# Altium integrated library TI Power Management Step-Down Regulator.IntLib: 565 symbols (part 33 of 33)
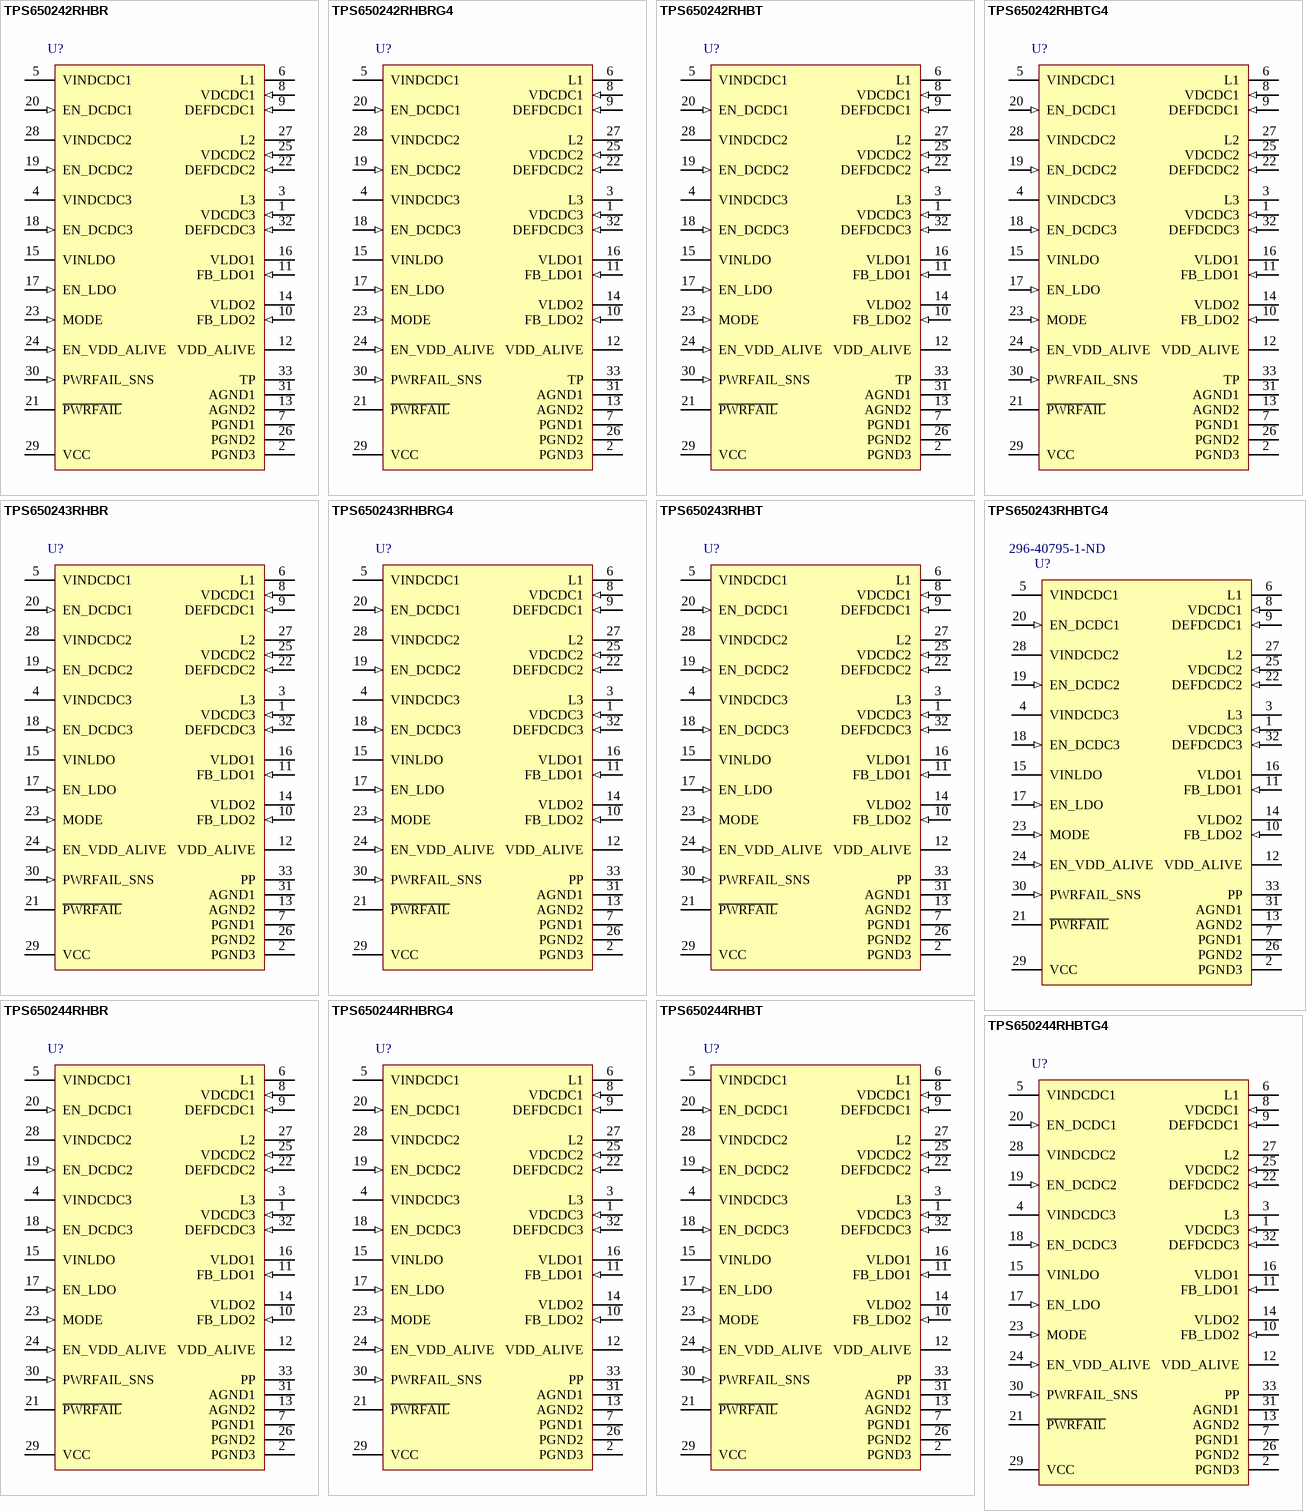
[diagram p51: symbols TPS650242RHBR to TPS650244RHBTG4]

## TPS650244RHBT
designator U?
Multi-Channel Power Management IC with 2.5 to 6 V Input and 2.5 to 6 V Output, -40 to 85 degC, 32-Pin QFN (RHB), Green (RoHS & no Sb/Br); Manufacturer: Texas Instruments; PartNumber: TPS650244RHBT; Dynamic Voltage Scaling: TRUE; Rating: Catalog; Regulated Outputs(#): 6; SubFamily: Step-Down Regulator; Vin(Min)(V): 2.5; DatasheetVersion: SLVS774B; PackageVersion: revD, Jun-2011; PackageReference: RHB32-3450X3450TP; PackageDescription: 32-Pin Plastic Quad Flat No-Lead, 5 x 5 mm Body, 0.5 mm Pitch, 3.45 x 3.45 mm Exposed Pad; Supplier 1: Digi-Key; Supplier Part Number 1: 296-23067-2-ND; Eco-Plan: Green (RoHS & no Sb/Br); Topology: Multi-Channel; Vin(Max)(V): 6; Vout(Max)(V): 6; Vout(Min)(V): 2.5; Mounting Technology: Surface Mount; Code_JEDEC: MO-220; ComponentLink1Description: Datasheet; ComponentLink1URL: http://www.ti.com/general/docs/lit/getliterature.tsp?genericPartNumber=TPS650244&fileType=pdf; ComponentLink2Description: Package Specification; ComponentLink2URL: http://www.ti.com/litv/pdf/mpqf130c; ComponentLink3Description: URL Link1; ComponentLink3URL: Samples URL:http://www.ti.com/product/tps650244#samples
footprint RHB32-3450X3450TP (QFN, 32-Leads, Body 5x5mm, Pitch 0.5mm, Thermal Pad 3.45x3.45mm, TI Recommended)
pins: 1 VDCDC3 (in) "VDCDC3 feedback voltage sense input, connect directly to VDCDC3", 2 PGND3 (power) "Power ground for VDCDC3 converter", 3 L3 (power) "Switch pin of VDCDC3 converter. The VDCDC3 inductor is connected here.", 4 VINDCDC3 (power) "Input voltage for VDCDC3 step-down converter. This must be connected to the same voltage supply as VINDCDC1, VINDCDC2 and VCC.", 5 VINDCDC1 (power) "Input voltage for VDCDC1 step-down converter. This must be connected to the same voltage supply as VINDCDC2, VINDCDC3 and VCC", 6 L1 (power) "Switch pin of VDCDC1 converter. The VDCDC1 inductor is connected here.", 7 PGND1 (power) "Power ground for VDCDC1 converter", 8 VDCDC1 (in) "VDCDC1 feedback voltage sense input, connect directly to VDCDC1", 9 DEFDCDC1 (in) "Input signal indicating default VDCDC1 voltage, 0 = 2.80V, 1 = 3.3V This pin can also be connected to a resistor divider between VDCDC1 and GND. In this case the output voltage of the DCDC1 converter can be set in a range (See Datasheet)", 10 FB_LDO2 (in) "Feedback pin for LDO2", 11 FB_LDO1 (in) "Feedback pin for LDO1", 12 VDD_ALIVE (power) "Output voltage for Vdd_alive", 13 AGND2 (power) "Analog ground connection. All analog ground pins are connected internally on the chip.", 14 VLDO2 (power) "Output voltage of LDO2", 15 VINLDO (power) "Input voltage for LDO1 and LDO2", 16 VLDO1 (power) "Output voltage of LDO1", 17 EN_LDO (in) "Enable input for LDO1 and LDO2. Logic high enables the LDOs, logic low disables the LDOs", 18 EN_DCDC3 (in) "VDCDC3 enable pin. A logic high enables the regulator, a logic low disables the regulator", 19 EN_DCDC2 (in) "VDCDC2 enable pin. A logic high enables the regulator, a logic low disables the regulator", 20 EN_DCDC1 (in) "VDCDC1 enable pin. A logic high enables the regulator, a logic low disables the regulator", 21 ~{PWRFAIL} (oc) "Open drain output. Active low when PWRFAIL comparator indicates low VBAT condition", 22 DEFDCDC2 (in) "Input signal indicating default VDCDC2 voltage, 0=1.8V, 1=2.5V This pin can also be connected to a resistor divider between VDCDC2 and GND. In this case the output voltage of the DCDC2 converter can be set in a range from 0.(See Datasheet)", 23 MODE (in) "Select between Power Safe Mode and forced PWM Mode for DCDC1, DCDC2 and DCDC3. In Power Safe Mode PFM is used at light loads, PWM for higher loads. If PIN is set to high level, forced PWM Mode is selected. If Pin has low (See Datasheet)", 24 EN_VDD_ALIVE (in) "Enable input for Vdd_alive LDO. Logic high enables the LDO, logic low disables the LDO", 25 VDCDC2 (in) "VDCDC2 feedback voltage sense input, connect directly to VDCDC2", 26 PGND2 (power) "Power ground for VDCDC2 converter", 27 L2 (power) "Switch pin of VDCDC2 converter. The VDCDC2 inductor is connected here.", 28 VINDCDC2 (power) "Input voltage for VDCDC2 step-down converter. This must be connected to the same voltage supply as VINDCDC1, VINDCDC3 and VCC", 29 VCC (power) "Power supply for digital and analog circuitry of DCDC1, DCDC2 and DCDC3 DC-DC converters. This must be connected to the same voltage supply as VINDCDC3, VINDCDC1 and VINDCDC2.", 30 PWRFAIL_SNS (in) "Input for the comparator driving the /PWRFAIL output", 31 AGND1 (power) "Analog ground connection. All analog ground pins are connected internally on the chip.", 32 DEFDCDC3 (in) "Input signal indicating VDCDC3 voltage.TPS650244: 0 = 1.55V, 1 = 1.6V", 33 PP (power) "Connect the power pad to analog ground"

## TPS650244RHBTG4
designator U?
Multi-Channel Power Management IC with 2.5 to 6 V Input and 2.5 to 6 V Output, -40 to 85 degC, 32-Pin QFN (RHB), Green (RoHS & no Sb/Br); Manufacturer: Texas Instruments; PartNumber: TPS650244RHBTG4; Dynamic Voltage Scaling: TRUE; Rating: Catalog; Regulated Outputs(#): 6; SubFamily: Step-Down Regulator; Vin(Min)(V): 2.5; DatasheetVersion: SLVS774B; PackageVersion: revD, Jun-2011; PackageReference: RHB32-3450X3450TP; PackageDescription: 32-Pin Plastic Quad Flat No-Lead, 5 x 5 mm Body, 0.5 mm Pitch, 3.45 x 3.45 mm Exposed Pad; Supplier 1: Digi-Key; Supplier Part Number 1: TPS650244RHBTG4-ND; Eco-Plan: Green (RoHS & no Sb/Br); Topology: Multi-Channel; Vin(Max)(V): 6; Vout(Max)(V): 6; Vout(Min)(V): 2.5; Mounting Technology: Surface Mount; Code_JEDEC: MO-220; ComponentLink1Description: Datasheet; ComponentLink1URL: http://www.ti.com/general/docs/lit/getliterature.tsp?genericPartNumber=TPS650244&fileType=pdf; ComponentLink2Description: Package Specification; ComponentLink2URL: http://www.ti.com/litv/pdf/mpqf130c; ComponentLink3Description: URL Link1; ComponentLink3URL: Samples URL:http://www.ti.com/product/tps54611#samples
footprint RHB32-3450X3450TP (QFN, 32-Leads, Body 5x5mm, Pitch 0.5mm, Thermal Pad 3.45x3.45mm, TI Recommended)
pins: 1 VDCDC3 (in) "VDCDC3 feedback voltage sense input, connect directly to VDCDC3", 2 PGND3 (power) "Power ground for VDCDC3 converter", 3 L3 (power) "Switch pin of VDCDC3 converter. The VDCDC3 inductor is connected here.", 4 VINDCDC3 (power) "Input voltage for VDCDC3 step-down converter. This must be connected to the same voltage supply as VINDCDC1, VINDCDC2 and VCC.", 5 VINDCDC1 (power) "Input voltage for VDCDC1 step-down converter. This must be connected to the same voltage supply as VINDCDC2, VINDCDC3 and VCC", 6 L1 (power) "Switch pin of VDCDC1 converter. The VDCDC1 inductor is connected here.", 7 PGND1 (power) "Power ground for VDCDC1 converter", 8 VDCDC1 (in) "VDCDC1 feedback voltage sense input, connect directly to VDCDC1", 9 DEFDCDC1 (in) "Input signal indicating default VDCDC1 voltage, 0 = 2.80V, 1 = 3.3V This pin can also be connected to a resistor divider between VDCDC1 and GND. In this case the output voltage of the DCDC1 converter can be set in a range (See Datasheet)", 10 FB_LDO2 (in) "Feedback pin for LDO2", 11 FB_LDO1 (in) "Feedback pin for LDO1", 12 VDD_ALIVE (power) "Output voltage for Vdd_alive", 13 AGND2 (power) "Analog ground connection. All analog ground pins are connected internally on the chip.", 14 VLDO2 (power) "Output voltage of LDO2", 15 VINLDO (power) "Input voltage for LDO1 and LDO2", 16 VLDO1 (power) "Output voltage of LDO1", 17 EN_LDO (in) "Enable input for LDO1 and LDO2. Logic high enables the LDOs, logic low disables the LDOs", 18 EN_DCDC3 (in) "VDCDC3 enable pin. A logic high enables the regulator, a logic low disables the regulator", 19 EN_DCDC2 (in) "VDCDC2 enable pin. A logic high enables the regulator, a logic low disables the regulator", 20 EN_DCDC1 (in) "VDCDC1 enable pin. A logic high enables the regulator, a logic low disables the regulator", 21 ~{PWRFAIL} (oc) "Open drain output. Active low when PWRFAIL comparator indicates low VBAT condition", 22 DEFDCDC2 (in) "Input signal indicating default VDCDC2 voltage, 0=1.8V, 1=2.5V This pin can also be connected to a resistor divider between VDCDC2 and GND. In this case the output voltage of the DCDC2 converter can be set in a range from 0.(See Datasheet)", 23 MODE (in) "Select between Power Safe Mode and forced PWM Mode for DCDC1, DCDC2 and DCDC3. In Power Safe Mode PFM is used at light loads, PWM for higher loads. If PIN is set to high level, forced PWM Mode is selected. If Pin has low (See Datasheet)", 24 EN_VDD_ALIVE (in) "Enable input for Vdd_alive LDO. Logic high enables the LDO, logic low disables the LDO", 25 VDCDC2 (in) "VDCDC2 feedback voltage sense input, connect directly to VDCDC2", 26 PGND2 (power) "Power ground for VDCDC2 converter", 27 L2 (power) "Switch pin of VDCDC2 converter. The VDCDC2 inductor is connected here.", 28 VINDCDC2 (power) "Input voltage for VDCDC2 step-down converter. This must be connected to the same voltage supply as VINDCDC1, VINDCDC3 and VCC", 29 VCC (power) "Power supply for digital and analog circuitry of DCDC1, DCDC2 and DCDC3 DC-DC converters. This must be connected to the same voltage supply as VINDCDC3, VINDCDC1 and VINDCDC2.", 30 PWRFAIL_SNS (in) "Input for the comparator driving the /PWRFAIL output", 31 AGND1 (power) "Analog ground connection. All analog ground pins are connected internally on the chip.", 32 DEFDCDC3 (in) "Input signal indicating VDCDC3 voltage.TPS650244: 0 = 1.55V, 1 = 1.6V", 33 PP (power) "Connect the power pad to analog ground"

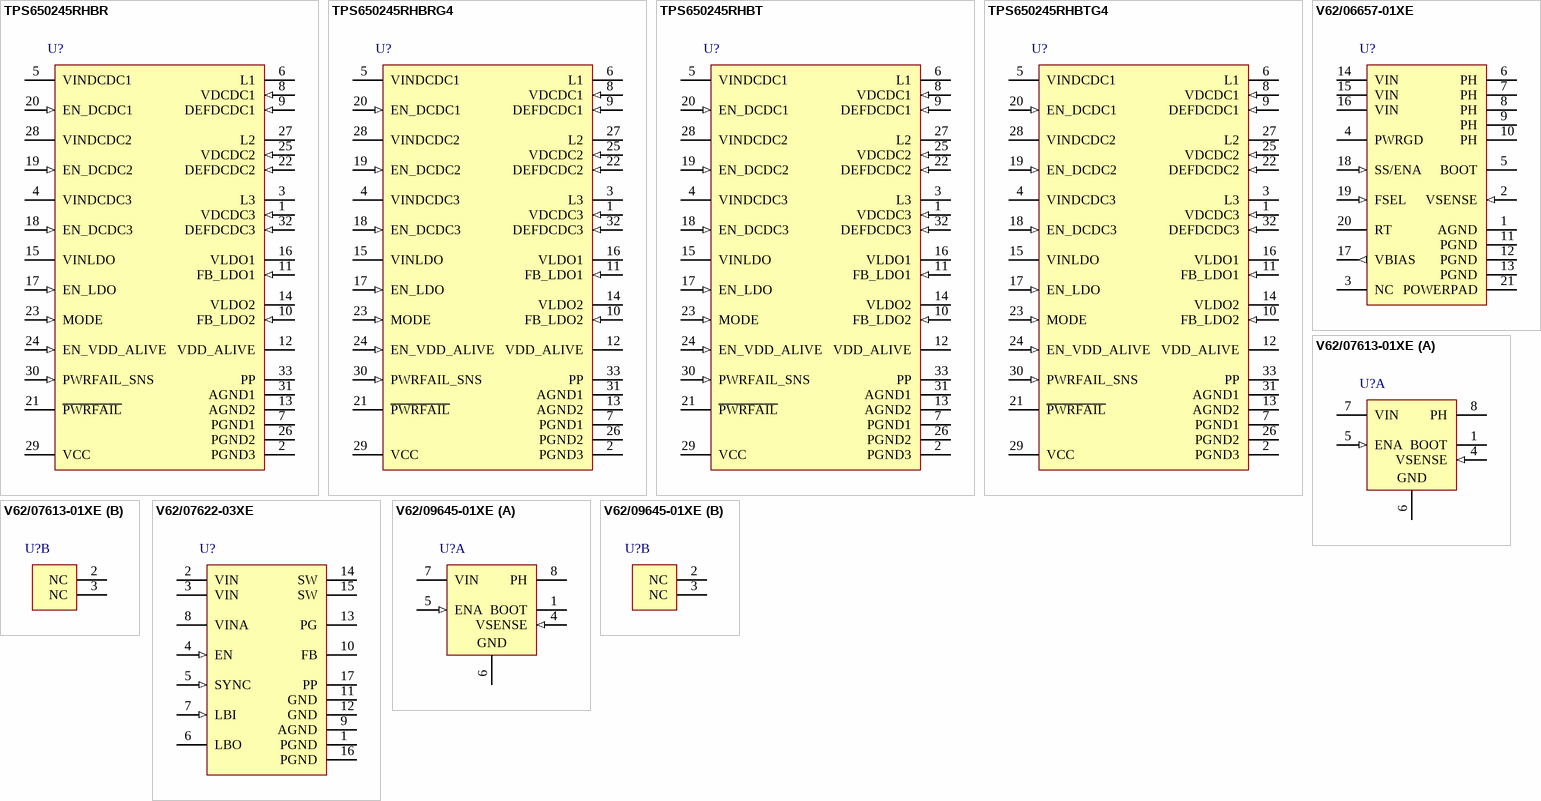
[diagram p19: symbols TPS650245RHBR to V62/09645-01XE]

## TPS650245RHBR
designator U?
Multi-Channel Power Management IC with 2.5 to 6 V Input, -40 to 85 degC, 32-Pin QFN (RHB), Green (RoHS & no Sb/Br); Manufacturer: Texas Instruments; PartNumber: TPS650245RHBR; Dynamic Voltage Scaling: TRUE; Rating: Catalog; Regulated Outputs(#): 6; SubFamily: PMIC Solutions with and without Battery Charger; Vin(Min)(V): 2.5; DatasheetVersion: SLVS774B; PackageVersion: revD, Jun-2011; PackageReference: RHB32-3450X3450TP; PackageDescription: 32-Pin Plastic Quad Flat No-Lead, 5 x 5 mm Body, 0.5 mm Pitch, 3.45 x 3.45 mm Exposed Pad; Supplier 1: Digi-Key; Supplier Part Number 1: TPS650245RHBR-ND; Eco-Plan: Green (RoHS & no Sb/Br); Topology: Multi-Channel; Vin(Max)(V): 6; Mounting Technology: Surface Mount; Code_JEDEC: MO-220; ComponentLink1Description: Datasheet; ComponentLink1URL: http://www.ti.com/general/docs/lit/getliterature.tsp?genericPartNumber=TPS650245&fileType=pdf; ComponentLink2Description: Package Specification; ComponentLink2URL: http://www.ti.com/litv/pdf/mpqf130c; ComponentLink3Description: URL Link1; ComponentLink3URL: Samples URL:http://www.ti.com/product/tps650245#samples
footprint RHB32-3450X3450TP (QFN, 32-Leads, Body 5x5mm, Pitch 0.5mm, Thermal Pad 3.45x3.45mm, TI Recommended)
pins: 1 VDCDC3 (in) "VDCDC3 feedback voltage sense input, connect directly to VDCDC3", 2 PGND3 (power) "Power ground for VDCDC3 converter", 3 L3 (power) "Switch pin of VDCDC3 converter. The VDCDC3 inductor is connected here.", 4 VINDCDC3 (power) "Input voltage for VDCDC3 step-down converter. This must be connected to the same voltage supply as VINDCDC1, VINDCDC2 and VCC.", 5 VINDCDC1 (power) "Input voltage for VDCDC1 step-down converter. This must be connected to the same voltage supply as VINDCDC2, VINDCDC3 and VCC.", 6 L1 (power) "Switch pin of VDCDC1 converter. The VDCDC1 inductor is connected here.", 7 PGND1 (power) "Power ground for VDCDC1 converter", 8 VDCDC1 (in) "VDCDC1 feedback voltage sense input, connect directly to VDCDC1", 9 DEFDCDC1 (in) "Input signal indicating default VDCDC1 voltage, 0 = 2.80V, 1 = 3.3V This pin can also be connected to a resistor divider between VDCDC1 and GND. In this case the output voltage of the DCDC1 converter can be set in a range (See Datasheet)", 10 FB_LDO2 (in) "Feedback pin for LDO2", 11 FB_LDO1 (in) "Feedback pin for LDO1", 12 VDD_ALIVE (power) "Output voltage for Vdd_alive", 13 AGND2 (power) "Analog ground connection. All analog ground pins are connected internally on the chip.", 14 VLDO2 (power) "Output voltage of LDO2", 15 VINLDO (power) "Input voltage for LDO1 and LDO2", 16 VLDO1 (power) "Output voltage of LDO1", 17 EN_LDO (in) "Enable input for LDO1 and LDO2. Logic high enables the LDOs, logic low disables the LDOs", 18 EN_DCDC3 (in) "VDCDC3 enable pin. A logic high enables the regulator, a logic low disables the regulator.", 19 EN_DCDC2 (in) "VDCDC2 enable pin. A logic high enables the regulator, a logic low disables the regulator.", 20 EN_DCDC1 (in) "VDCDC1 enable pin. A logic high enables the regulator, a logic low disables the regulator.", 21 ~{PWRFAIL} (oc) "Open drain output. Active low when PWRFAIL comparator indicates low VBAT condition.", 22 DEFDCDC2 (in) "Input signal indicating default VDCDC2 voltage, 0=1.8V, 1=2.5V This pin can also be connected to a resistor divider between VDCDC2 and GND. In this case the output voltage of the DCDC2 converter can be set in a range from 0.(See Datasheet)", 23 MODE (in) "Select between Power Safe Mode and forced PWM Mode for DCDC1, DCDC2 and DCDC3. In Power Safe Mode PFM is used at light loads, PWM for higher loads. If PIN is set to high level, forced PWM Mode is selected. If Pin has low (See Datasheet)", 24 EN_VDD_ALIVE (in) "Enable input for Vdd_alive LDO. Logic high enables the LDO, logic low disables the LDO", 25 VDCDC2 (in) "VDCDC2 feedback voltage sense input, connect directly to VDCDC2", 26 PGND2 (power) "Power ground for VDCDC2 converter", 27 L2 (power) "Switch pin of VDCDC2 converter. The VDCDC2 inductor is connected here.", 28 VINDCDC2 (power) "Input voltage for VDCDC2 step-down converter. This must be connected to the same voltage supply as VINDCDC1, VINDCDC3 and VCC.", 29 VCC (power) "Power supply for digital and analog circuitry of DCDC1, DCDC2 and DCDC3 DC-DC converters. This must be connected to the same voltage supply as VINDCDC3, VINDCDC1 and VINDCDC2.", 30 PWRFAIL_SNS (in) "Input for the comparator driving the /PWRFAIL output", 31 AGND1 (power) "Analog ground connection. All analog ground pins are connected internally on the chip.", 32 DEFDCDC3 (in) "Input signal indicating VDCDC3 voltage.TPS650240: 0 = 1.0V, 1 = 1.3V TPS650241: 0 = 0.9V, 1 = 1.375V TPS650242: 0 = 1.0V, 1 = 1.5V TPS650243: 0 = 1.0V, 1 = 1.2V TPS650244: 0 = 1.55V, 1 = 1.6V TPS650245: 0 = 0.9V, 1 = 1.1V", 33 PP (power) "Exposed Thermal Pad"

## TPS650245RHBRG4
designator U?
Multi-Channel Power Management IC with 2.5 to 6 V Input, -40 to 85 degC, 32-Pin QFN (RHB), Green (RoHS & no Sb/Br); Manufacturer: Texas Instruments; PartNumber: TPS650245RHBRG4; Dynamic Voltage Scaling: TRUE; Rating: Catalog; Regulated Outputs(#): 6; SubFamily: PMIC Solutions with and without Battery Charger; Vin(Min)(V): 2.5; DatasheetVersion: SLVS774B; PackageVersion: revD, Jun-2011; PackageReference: RHB32-3450X3450TP; PackageDescription: 32-Pin Plastic Quad Flat No-Lead, 5 x 5 mm Body, 0.5 mm Pitch, 3.45 x 3.45 mm Exposed Pad; Supplier 1: Digi-Key; Supplier Part Number 1: TPS650245RHBRG4-ND; Eco-Plan: Green (RoHS & no Sb/Br); Topology: Multi-Channel; Vin(Max)(V): 6; Mounting Technology: Surface Mount; Code_JEDEC: MO-220; ComponentLink1Description: Datasheet; ComponentLink1URL: http://www.ti.com/general/docs/lit/getliterature.tsp?genericPartNumber=TPS650245&fileType=pdf; ComponentLink2Description: Package Specification; ComponentLink2URL: http://www.ti.com/litv/pdf/mpqf130c; ComponentLink3Description: URL Link1; ComponentLink3URL: Samples URL:http://www.ti.com/product/tps650245#samples
footprint RHB32-3450X3450TP (QFN, 32-Leads, Body 5x5mm, Pitch 0.5mm, Thermal Pad 3.45x3.45mm, TI Recommended)
pins: 1 VDCDC3 (in) "VDCDC3 feedback voltage sense input, connect directly to VDCDC3", 2 PGND3 (power) "Power ground for VDCDC3 converter", 3 L3 (power) "Switch pin of VDCDC3 converter. The VDCDC3 inductor is connected here.", 4 VINDCDC3 (power) "Input voltage for VDCDC3 step-down converter. This must be connected to the same voltage supply as VINDCDC1, VINDCDC2 and VCC.", 5 VINDCDC1 (power) "Input voltage for VDCDC1 step-down converter. This must be connected to the same voltage supply as VINDCDC2, VINDCDC3 and VCC.", 6 L1 (power) "Switch pin of VDCDC1 converter. The VDCDC1 inductor is connected here.", 7 PGND1 (power) "Power ground for VDCDC1 converter", 8 VDCDC1 (in) "VDCDC1 feedback voltage sense input, connect directly to VDCDC1", 9 DEFDCDC1 (in) "Input signal indicating default VDCDC1 voltage, 0 = 2.80V, 1 = 3.3V This pin can also be connected to a resistor divider between VDCDC1 and GND. In this case the output voltage of the DCDC1 converter can be set in a range (See Datasheet)", 10 FB_LDO2 (in) "Feedback pin for LDO2", 11 FB_LDO1 (in) "Feedback pin for LDO1", 12 VDD_ALIVE (power) "Output voltage for Vdd_alive", 13 AGND2 (power) "Analog ground connection. All analog ground pins are connected internally on the chip.", 14 VLDO2 (power) "Output voltage of LDO2", 15 VINLDO (power) "Input voltage for LDO1 and LDO2", 16 VLDO1 (power) "Output voltage of LDO1", 17 EN_LDO (in) "Enable input for LDO1 and LDO2. Logic high enables the LDOs, logic low disables the LDOs", 18 EN_DCDC3 (in) "VDCDC3 enable pin. A logic high enables the regulator, a logic low disables the regulator.", 19 EN_DCDC2 (in) "VDCDC2 enable pin. A logic high enables the regulator, a logic low disables the regulator.", 20 EN_DCDC1 (in) "VDCDC1 enable pin. A logic high enables the regulator, a logic low disables the regulator.", 21 ~{PWRFAIL} (oc) "Open drain output. Active low when PWRFAIL comparator indicates low VBAT condition.", 22 DEFDCDC2 (in) "Input signal indicating default VDCDC2 voltage, 0=1.8V, 1=2.5V This pin can also be connected to a resistor divider between VDCDC2 and GND. In this case the output voltage of the DCDC2 converter can be set in a range from 0.(See Datasheet)", 23 MODE (in) "Select between Power Safe Mode and forced PWM Mode for DCDC1, DCDC2 and DCDC3. In Power Safe Mode PFM is used at light loads, PWM for higher loads. If PIN is set to high level, forced PWM Mode is selected. If Pin has low (See Datasheet)", 24 EN_VDD_ALIVE (in) "Enable input for Vdd_alive LDO. Logic high enables the LDO, logic low disables the LDO", 25 VDCDC2 (in) "VDCDC2 feedback voltage sense input, connect directly to VDCDC2", 26 PGND2 (power) "Power ground for VDCDC2 converter", 27 L2 (power) "Switch pin of VDCDC2 converter. The VDCDC2 inductor is connected here.", 28 VINDCDC2 (power) "Input voltage for VDCDC2 step-down converter. This must be connected to the same voltage supply as VINDCDC1, VINDCDC3 and VCC.", 29 VCC (power) "Power supply for digital and analog circuitry of DCDC1, DCDC2 and DCDC3 DC-DC converters. This must be connected to the same voltage supply as VINDCDC3, VINDCDC1 and VINDCDC2.", 30 PWRFAIL_SNS (in) "Input for the comparator driving the /PWRFAIL output", 31 AGND1 (power) "Analog ground connection. All analog ground pins are connected internally on the chip.", 32 DEFDCDC3 (in) "Input signal indicating VDCDC3 voltage.TPS650240: 0 = 1.0V, 1 = 1.3V TPS650241: 0 = 0.9V, 1 = 1.375V TPS650242: 0 = 1.0V, 1 = 1.5V TPS650243: 0 = 1.0V, 1 = 1.2V TPS650244: 0 = 1.55V, 1 = 1.6V TPS650245: 0 = 0.9V, 1 = 1.1V", 33 PP (power) "Exposed Thermal Pad"

## TPS650245RHBT
designator U?
Multi-Channel Power Management IC with 2.5 to 6 V Input, -40 to 85 degC, 32-Pin QFN (RHB), Green (RoHS & no Sb/Br); Manufacturer: Texas Instruments; PartNumber: TPS650245RHBT; Dynamic Voltage Scaling: TRUE; Rating: Catalog; Regulated Outputs(#): 6; SubFamily: PMIC Solutions with and without Battery Charger; Vin(Min)(V): 2.5; DatasheetVersion: SLVS774B; PackageVersion: revD, Jun-2011; PackageReference: RHB32-3450X3450TP; PackageDescription: 32-Pin Plastic Quad Flat No-Lead, 5 x 5 mm Body, 0.5 mm Pitch, 3.45 x 3.45 mm Exposed Pad; Supplier 1: Digi-Key; Supplier Part Number 1: 296-23068-2-ND; Eco-Plan: Green (RoHS & no Sb/Br); Topology: Multi-Channel; Vin(Max)(V): 6; Mounting Technology: Surface Mount; Code_JEDEC: MO-220; ComponentLink1Description: Datasheet; ComponentLink1URL: http://www.ti.com/general/docs/lit/getliterature.tsp?genericPartNumber=TPS650245&fileType=pdf; ComponentLink2Description: Package Specification; ComponentLink2URL: http://www.ti.com/litv/pdf/mpqf130c; ComponentLink3Description: URL Link1; ComponentLink3URL: Samples URL:http://www.ti.com/product/tps650245#samples
footprint RHB32-3450X3450TP (QFN, 32-Leads, Body 5x5mm, Pitch 0.5mm, Thermal Pad 3.45x3.45mm, TI Recommended)
pins: 1 VDCDC3 (in) "VDCDC3 feedback voltage sense input, connect directly to VDCDC3", 2 PGND3 (power) "Power ground for VDCDC3 converter", 3 L3 (power) "Switch pin of VDCDC3 converter. The VDCDC3 inductor is connected here.", 4 VINDCDC3 (power) "Input voltage for VDCDC3 step-down converter. This must be connected to the same voltage supply as VINDCDC1, VINDCDC2 and VCC.", 5 VINDCDC1 (power) "Input voltage for VDCDC1 step-down converter. This must be connected to the same voltage supply as VINDCDC2, VINDCDC3 and VCC.", 6 L1 (power) "Switch pin of VDCDC1 converter. The VDCDC1 inductor is connected here.", 7 PGND1 (power) "Power ground for VDCDC1 converter", 8 VDCDC1 (in) "VDCDC1 feedback voltage sense input, connect directly to VDCDC1", 9 DEFDCDC1 (in) "Input signal indicating default VDCDC1 voltage, 0 = 2.80V, 1 = 3.3V This pin can also be connected to a resistor divider between VDCDC1 and GND. In this case the output voltage of the DCDC1 converter can be set in a range (See Datasheet)", 10 FB_LDO2 (in) "Feedback pin for LDO2", 11 FB_LDO1 (in) "Feedback pin for LDO1", 12 VDD_ALIVE (power) "Output voltage for Vdd_alive", 13 AGND2 (power) "Analog ground connection. All analog ground pins are connected internally on the chip.", 14 VLDO2 (power) "Output voltage of LDO2", 15 VINLDO (power) "Input voltage for LDO1 and LDO2", 16 VLDO1 (power) "Output voltage of LDO1", 17 EN_LDO (in) "Enable input for LDO1 and LDO2. Logic high enables the LDOs, logic low disables the LDOs", 18 EN_DCDC3 (in) "VDCDC3 enable pin. A logic high enables the regulator, a logic low disables the regulator.", 19 EN_DCDC2 (in) "VDCDC2 enable pin. A logic high enables the regulator, a logic low disables the regulator.", 20 EN_DCDC1 (in) "VDCDC1 enable pin. A logic high enables the regulator, a logic low disables the regulator.", 21 ~{PWRFAIL} (oc) "Open drain output. Active low when PWRFAIL comparator indicates low VBAT condition.", 22 DEFDCDC2 (in) "Input signal indicating default VDCDC2 voltage, 0=1.8V, 1=2.5V This pin can also be connected to a resistor divider between VDCDC2 and GND. In this case the output voltage of the DCDC2 converter can be set in a range from 0.(See Datasheet)", 23 MODE (in) "Select between Power Safe Mode and forced PWM Mode for DCDC1, DCDC2 and DCDC3. In Power Safe Mode PFM is used at light loads, PWM for higher loads. If PIN is set to high level, forced PWM Mode is selected. If Pin has low (See Datasheet)", 24 EN_VDD_ALIVE (in) "Enable input for Vdd_alive LDO. Logic high enables the LDO, logic low disables the LDO", 25 VDCDC2 (in) "VDCDC2 feedback voltage sense input, connect directly to VDCDC2", 26 PGND2 (power) "Power ground for VDCDC2 converter", 27 L2 (power) "Switch pin of VDCDC2 converter. The VDCDC2 inductor is connected here.", 28 VINDCDC2 (power) "Input voltage for VDCDC2 step-down converter. This must be connected to the same voltage supply as VINDCDC1, VINDCDC3 and VCC.", 29 VCC (power) "Power supply for digital and analog circuitry of DCDC1, DCDC2 and DCDC3 DC-DC converters. This must be connected to the same voltage supply as VINDCDC3, VINDCDC1 and VINDCDC2.", 30 PWRFAIL_SNS (in) "Input for the comparator driving the /PWRFAIL output", 31 AGND1 (power) "Analog ground connection. All analog ground pins are connected internally on the chip.", 32 DEFDCDC3 (in) "Input signal indicating VDCDC3 voltage.TPS650240: 0 = 1.0V, 1 = 1.3V TPS650241: 0 = 0.9V, 1 = 1.375V TPS650242: 0 = 1.0V, 1 = 1.5V TPS650243: 0 = 1.0V, 1 = 1.2V TPS650244: 0 = 1.55V, 1 = 1.6V TPS650245: 0 = 0.9V, 1 = 1.1V", 33 PP (power) "Exposed Thermal Pad"

## TPS650245RHBTG4
designator U?
Multi-Channel Power Management IC with 2.5 to 6 V Input, -40 to 85 degC, 32-Pin QFN (RHB), Green (RoHS & no Sb/Br); Manufacturer: Texas Instruments; PartNumber: TPS650245RHBTG4; Dynamic Voltage Scaling: TRUE; Rating: Catalog; Regulated Outputs(#): 6; SubFamily: PMIC Solutions with and without Battery Charger; Vin(Min)(V): 2.5; DatasheetVersion: SLVS774B; PackageVersion: revD, Jun-2011; PackageReference: RHB32-3450X3450TP; PackageDescription: 32-Pin Plastic Quad Flat No-Lead, 5 x 5 mm Body, 0.5 mm Pitch, 3.45 x 3.45 mm Exposed Pad; Supplier 1: Digi-Key; Supplier Part Number 1: TPS650245RHBTG4-ND; Eco-Plan: Green (RoHS & no Sb/Br); Topology: Multi-Channel; Vin(Max)(V): 6; Mounting Technology: Surface Mount; Code_JEDEC: MO-220; ComponentLink1Description: Datasheet; ComponentLink1URL: http://www.ti.com/general/docs/lit/getliterature.tsp?genericPartNumber=TPS650245&fileType=pdf; ComponentLink2Description: Package Specification; ComponentLink2URL: http://www.ti.com/litv/pdf/mpqf130c; ComponentLink3Description: URL Link1; ComponentLink3URL: Samples URL:http://www.ti.com/product/tps54611#samples
footprint RHB32-3450X3450TP (QFN, 32-Leads, Body 5x5mm, Pitch 0.5mm, Thermal Pad 3.45x3.45mm, TI Recommended)
pins: 1 VDCDC3 (in) "VDCDC3 feedback voltage sense input, connect directly to VDCDC3", 2 PGND3 (power) "Power ground for VDCDC3 converter", 3 L3 (power) "Switch pin of VDCDC3 converter. The VDCDC3 inductor is connected here.", 4 VINDCDC3 (power) "Input voltage for VDCDC3 step-down converter. This must be connected to the same voltage supply as VINDCDC1, VINDCDC2 and VCC.", 5 VINDCDC1 (power) "Input voltage for VDCDC1 step-down converter. This must be connected to the same voltage supply as VINDCDC2, VINDCDC3 and VCC.", 6 L1 (power) "Switch pin of VDCDC1 converter. The VDCDC1 inductor is connected here.", 7 PGND1 (power) "Power ground for VDCDC1 converter", 8 VDCDC1 (in) "VDCDC1 feedback voltage sense input, connect directly to VDCDC1", 9 DEFDCDC1 (in) "Input signal indicating default VDCDC1 voltage, 0 = 2.80V, 1 = 3.3V This pin can also be connected to a resistor divider between VDCDC1 and GND. In this case the output voltage of the DCDC1 converter can be set in a range (See Datasheet)", 10 FB_LDO2 (in) "Feedback pin for LDO2", 11 FB_LDO1 (in) "Feedback pin for LDO1", 12 VDD_ALIVE (power) "Output voltage for Vdd_alive", 13 AGND2 (power) "Analog ground connection. All analog ground pins are connected internally on the chip.", 14 VLDO2 (power) "Output voltage of LDO2", 15 VINLDO (power) "Input voltage for LDO1 and LDO2", 16 VLDO1 (power) "Output voltage of LDO1", 17 EN_LDO (in) "Enable input for LDO1 and LDO2. Logic high enables the LDOs, logic low disables the LDOs", 18 EN_DCDC3 (in) "VDCDC3 enable pin. A logic high enables the regulator, a logic low disables the regulator.", 19 EN_DCDC2 (in) "VDCDC2 enable pin. A logic high enables the regulator, a logic low disables the regulator.", 20 EN_DCDC1 (in) "VDCDC1 enable pin. A logic high enables the regulator, a logic low disables the regulator.", 21 ~{PWRFAIL} (oc) "Open drain output. Active low when PWRFAIL comparator indicates low VBAT condition.", 22 DEFDCDC2 (in) "Input signal indicating default VDCDC2 voltage, 0=1.8V, 1=2.5V This pin can also be connected to a resistor divider between VDCDC2 and GND. In this case the output voltage of the DCDC2 converter can be set in a range from 0.(See Datasheet)", 23 MODE (in) "Select between Power Safe Mode and forced PWM Mode for DCDC1, DCDC2 and DCDC3. In Power Safe Mode PFM is used at light loads, PWM for higher loads. If PIN is set to high level, forced PWM Mode is selected. If Pin has low (See Datasheet)", 24 EN_VDD_ALIVE (in) "Enable input for Vdd_alive LDO. Logic high enables the LDO, logic low disables the LDO", 25 VDCDC2 (in) "VDCDC2 feedback voltage sense input, connect directly to VDCDC2", 26 PGND2 (power) "Power ground for VDCDC2 converter", 27 L2 (power) "Switch pin of VDCDC2 converter. The VDCDC2 inductor is connected here.", 28 VINDCDC2 (power) "Input voltage for VDCDC2 step-down converter. This must be connected to the same voltage supply as VINDCDC1, VINDCDC3 and VCC.", 29 VCC (power) "Power supply for digital and analog circuitry of DCDC1, DCDC2 and DCDC3 DC-DC converters. This must be connected to the same voltage supply as VINDCDC3, VINDCDC1 and VINDCDC2.", 30 PWRFAIL_SNS (in) "Input for the comparator driving the /PWRFAIL output", 31 AGND1 (power) "Analog ground connection. All analog ground pins are connected internally on the chip.", 32 DEFDCDC3 (in) "Input signal indicating VDCDC3 voltage.TPS650240: 0 = 1.0V, 1 = 1.3V TPS650241: 0 = 0.9V, 1 = 1.375V TPS650242: 0 = 1.0V, 1 = 1.5V TPS650243: 0 = 1.0V, 1 = 1.2V TPS650244: 0 = 1.55V, 1 = 1.6V TPS650245: 0 = 0.9V, 1 = 1.1V", 33 PP (power) "Exposed Thermal Pad"

## V62/06657-01XE
designator U?
Buck PWM Switcher with 3 to 6 V Input, -55 to 125 degC, 20-Pin HTSSOP (PWP), Green (RoHS & no Sb/Br); Manufacturer: Texas Instruments; PartNumber: V62/06657-01XE; Duty Cycle(Max)(%): 90; Iout(Max)(A): 3; Iq(Typ)(mA): 6.2; Preset Vout(V): 0.9; Rating: HiRel Enhanced Product; Regulated Outputs(#): 1; SubFamily: Step-Down Regulator; Switch Current Limit(Typ)(A): 4; Synchronous Rectification: TRUE; Vin(Max)(V): 6; DatasheetVersion: SGLS376A; PackageVersion: revI, May-2011; PackageReference: PWP20-3005X2005TP; PackageDescription: 20-Pin PowerPAD Plastic Small Outline 6.5 x 4.4 mm Body ,0.65 mm Pitch, Exposed Pad; Supplier 1: Newark; Supplier Part Number 1: 46M1868; Eco-Plan: Green (RoHS & no Sb/Br); Topology: Buck; Vin(Min)(V): 3; Mounting Technology: Surface Mount; Code_JEDEC: MO-153; ComponentLink1Description: Datasheet; ComponentLink1URL: http://www.ti.com/general/docs/lit/getliterature.tsp?genericPartNumber=TPS54311-EP&fileType=pdf; ComponentLink2Description: Package Specification; ComponentLink2URL: http://www.ti.com/lit/ml/mhts001g/mhts001g.pdf; ComponentLink3Description: URL Link1; ComponentLink3URL: Samples URL:http://www.ti.com/product/tps54611#samples
footprint PWP20-3005X2005TP_N (TSOP, 20-Leads, Body 6.5x4.4mm, Pitch 0.65mm, Thermal Pad 3.7x2.4 mm, IPC Medium Density)
footprint PWP20-3005X2005TP_L (TSOP, 20-Leads, Body 6.5x4.4mm, Pitch 0.65mm, Thermal Pad 3.7x2.4 mm, IPC High Density)
footprint PWP20-3005X2005TP_M (TSOP, 20-Leads, Body 6.5x4.4mm, Pitch 0.65mm, Thermal Pad 3.7x2.4 mm, IPC Low Density)
pins: 1 AGND (power) "Analog ground. Return for compensation network/output divider, slow-start capacitor, VBIAS capacitor, RT resistor and FSEL pin. Make PowerPAD connection to AGND.", 2 VSENSE (in) "Error amplifier inverting input. Connect directly to output voltage sense point.", 3 NC "No connection", 4 PWRGD (hiz) "Power good open drain output. Hi-Z when VSENSE >= 90% Vref , otherwise PWRGD is low. Note that output is low when SS/ENA is low or internal shutdown signal active", 5 BOOT "Bootstrap input. 0.022-uF to 0.1-uF low-ESR capacitor connected from BOOT to PH generates floating drive for the high-side FET driver", 6 PH (power) "Phase input/output. Junction of the internal high and low-side power MOSFETs, and output inductor", 7 PH (power) "Phase input/output. Junction of the internal high and low-side power MOSFETs, and output inductor", 8 PH (power) "Phase input/output. Junction of the internal high and low-side power MOSFETs, and output inductor", 9 PH (power) "Phase input/output. Junction of the internal high and low-side power MOSFETs, and output inductor", 10 PH (power) "Phase input/output. Junction of the internal high and low-side power MOSFETs, and output inductor", 11 PGND (power) "Power ground. High current return for the low-side driver and power MOSFET. Connect PGND with large copper areas to the input and output supply returns, and negative terminals of the input and output capacitors.", 12 PGND (power) "Power ground. High current return for the low-side driver and power MOSFET. Connect PGND with large copper areas to the input and output supply returns, and negative terminals of the input and output capacitors.", 13 PGND (power) "Power ground. High current return for the low-side driver and power MOSFET. Connect PGND with large copper areas to the input and output supply returns, and negative terminals of the input and output capacitors.", 14 VIN (power) "Input supply for the power MOSFET switches and internal bias regulator. Bypass VIN pins to PGND pins close to device package with a high quality, low ESR 1-uF to 10-uF ceramic capacitor.", 15 VIN (power) "Input supply for the power MOSFET switches and internal bias regulator. Bypass VIN pins to PGND pins close to device package with a high quality, low ESR 1-uF to 10-uF ceramic capacitor.", 16 VIN (power) "Input supply for the power MOSFET switches and internal bias regulator. Bypass VIN pins to PGND pins close to device package with a high quality, low ESR 1-uF to 10-uF ceramic capacitor.", 17 VBIAS (out) "Internal bias regulator output. Supplies regulated voltage to internal circuitry. Bypass VBIAS pin to AGND pin with a high quality, low ESR 0.1-uF to 1-uF ceramic capacitor.", 18 SS/ENA (in) "Slow-start/enable input/output. Dual function pin which provides logic input to enable/disable device operation and capacitor input to externally set the start-up time.", 19 FSEL (in) "Frequency select input. Provides logic input to select between two internally set switching frequencies.", 20 RT "Frequency setting resistor input. Connect a resistor from RT to AGND to set the switching frequency, f s .", 21 POWERPAD (power) "Connect to AGND."

## V62/07613-01XE
designator U?
Buck PWM Switcher with 5.5 to 36 V Input and 1.23 to 31 V Output, -55 to 125 degC, 8-Pin SOIC (D), Green (RoHS & no Sb/Br); Manufacturer: Texas Instruments; PartNumber: V62/07613-01XE; Duty Cycle(Max)(%): 87; Iout(Max)(A): 2; Iq(Typ)(mA): 3; Rating: HiRel Enhanced Product; Regulated Outputs(#): 1; SubFamily: Step-Down Regulator; Vin(Max)(V): 36; Vin(Min)(V): 5.5; Vout(Max)(V): 31; Vout(Min)(V): 1.23; DatasheetVersion: SLVS717; PackageVersion: revM, Jun-2011; PackageReference: D8; PackageDescription: 8-Pin Plastic Small Outline Integrated Circuit, 4.9 x 3.9 mm, Pitch 1.27 mm Pitch; Supplier 1: Newark; Supplier Part Number 1: 46M1905; Eco-Plan: Green (RoHS & no Sb/Br); Switch Current Limit(Typ)(A): 3; Topology: Buck; Mounting Technology: Surface Mount; Code_JEDEC: MS-012AA; ComponentLink1Description: Datasheet; ComponentLink1URL: http://www.ti.com/general/docs/lit/getliterature.tsp?genericPartNumber=TPS5420-EP&fileType=pdf; ComponentLink2Description: Package Specification; ComponentLink2URL: http://www.ti.com/litv/pdf/msoi002j; ComponentLink3Description: URL Link1; ComponentLink3URL: Samples URL:http://www.ti.com/product/tps54611#samples
footprint D8_N (SOIC, 8-Leads, Body 4.9x3.9mm, Pitch 1.27mm, IPC Medium Density)
footprint D8_L (SOIC, 8-Leads, Body 4.9x3.9mm, Pitch 1.27mm, IPC High Density)
footprint D8_M (SOIC, 8-Leads, Body 4.9x3.9mm, Pitch 1.27mm, IPC Low Density)
part A pins: 1 BOOT "Boost capacitor for the high-side FET gate driver. Connect 0.01-µF low-ESR capacitor from BOOT pin to PH pin.", 4 VSENSE (in) "Feedback voltage for the regulator. Connect to output voltage divider.", 5 ENA (in) "On/off control. Below 0.5 V, the device stops switching. Float the pin to enable.", 6 GND (power) "Ground", 7 VIN (power) "Input supply voltage. Bypass VIN pin to GND pin close to device package with a high-quality, low-ESR ceramic capacitor.", 8 PH (power) "Source of the high-side power MOSFET. Connected to external inductor and diode."
part B pins: 2 NC "Not connected internally", 3 NC "Not connected internally"

## V62/07622-03XE
designator U?
Buck Step Down Regulator with 3.1 to 17 V Input and 5.5 to 17 V Output, -55 to 125 degC, 16-Pin QFN (RSA), Green (RoHS & no Sb/Br); Manufacturer: Texas Instruments; PartNumber: V62/07622-03XE; Duty Cycle(Max)(%): 100; Iout(Max)(A): 1.5; Iq(Typ)(mA): 0.02; Rating: HiRel Enhanced Product; Regulated Outputs(#): 1; SubFamily: Step-Down Regulator; Switch Current Limit(Typ)(A): 2.4; Synchronous Rectification: TRUE; Vin(Max)(V): 17; Vin(Min)(V): 3.1; Vout(Min)(V): 5.5; DatasheetVersion: SLVS630C; PackageVersion: revD, Jun-2011; PackageReference: RSA16-2700X2700TP; PackageDescription: 16-Pin Plastic Quad Flatpack No-Lead 0.65 mm Pitch; Supplier 1: Mouser; Supplier Part Number 1: 595-V62/07622-03XE; Eco-Plan: Green (RoHS & no Sb/Br); Topology: Buck; Vout(Max)(V): 17; Mounting Technology: Surface Mount; Code_JEDEC: MO-220; ComponentLink1Description: Datasheet; ComponentLink1URL: http://www.ti.com/general/docs/lit/getliterature.tsp?genericPartNumber=TPS62112-EP&fileType=pdf; ComponentLink2Description: Package Specification; ComponentLink2URL: http://www.ti.com/litv/pdf/mpqf145c; ComponentLink3Description: URL Link1; ComponentLink3URL: Samples URL:http://www.ti.com/product/tps54611#samples
footprint RSA16-2700X2700TP (QFN, 16-Leads, Body 4x4mm, Pitch 0.65mm, Thermal Pad 2.7x2.7mm, TI Recommended)
pins: 1 PGND (power) "Power ground. Connect all power grounds to this pin.", 2 VIN (power) "Supply voltage input (power stage)", 3 VIN (power) "Supply voltage input (power stage)", 4 EN (in) "Enable. A logic high enables the converter; logic low forces the device into shutdown mode reducing the supply current to less than 2 uA.", 5 SYNC (in) "Input for synchronization to external clock signal. Synchronizes the converter switching frequency to an external clock signal with CMOS level: SYNC = HIGH: Low-noise mode enabled, fixed frequency PWM operation is forced (See Datasheet)", 6 LBO (hiz) "Open-drain, low-battery output. This pin is pulled low if LBI is below its threshold.", 7 LBI (in) "Low-battery input", 8 VINA (power) "Supply voltage input (support circuits)", 9 AGND (power) "Analog ground, connect to GND and PGND", 10 FB "Feedback pin for the fixed output voltage option. For the adjustable version, an external resistive divider is connected to this pin. The internal voltage divider is disabled for the adjustable version.", 11 GND (power) "Ground", 12 GND (power) "Ground", 13 PG (oc) "Power good comparator output. This is an open-drain output. A pullup resistor should be connected between PG and VOUT. The output goes active high when the output voltage is greater than 98.4% of the nominal value.", 14 SW (power) "Connect the inductor to this pin. This pin is the switch pin and connected to the drain of the internal power MOSFETS.", 15 SW (power) "Connect the inductor to this pin. This pin is the switch pin and connected to the drain of the internal power MOSFETS.", 16 PGND (power) "Power ground. Connect all power grounds to this pin.", 17 PP (power) "Connect to AGND"

## V62/09645-01XE
designator U?
Buck Step Down Regulator with 5.5 to 36 V Input and 1.23 to 31 V Output, -55 to 125 degC, 8-Pin SOIC (D), Green (RoHS & no Sb/Br); Manufacturer: Texas Instruments; PartNumber: V62/09645-01XE; Duty Cycle(Max)(%): 87.5; Iout(Max)(A): 1; Iq(Typ)(mA): 3; Rating: HiRel Enhanced Product; SubFamily: Step-Down Regulator; Switch Current Limit(Typ)(A): 1.2; Vin(Max)(V): 36; Vin(Min)(V): 5.5; Vout(Max)(V): 31; Vout(Min)(V): 1.23; DatasheetVersion: SLVS910; PackageVersion: revM, Jun-2011; PackageReference: D8; PackageDescription: 8-Pin Plastic Small Outline Integrated Circuit, 4.9 x 3.9 mm, Pitch 1.27 mm Pitch; Supplier 1: Mouser; Supplier Part Number 1: 595-V62/09645-01XE; Eco-Plan: Green (RoHS & no Sb/Br); Regulated Outputs(#): 1; Topology: Buck; Mounting Technology: Surface Mount; Code_JEDEC: MS-012AA; ComponentLink1Description: Datasheet; ComponentLink1URL: http://www.ti.com/general/docs/lit/getliterature.tsp?genericPartNumber=TPS5410-EP&fileType=pdf; ComponentLink2Description: Package Specification; ComponentLink2URL: http://www.ti.com/litv/pdf/msoi002j; ComponentLink3Description: URL Link1; ComponentLink3URL: Samples URL:http://www.ti.com/product/tps54611#samples
footprint D8_N (SOIC, 8-Leads, Body 4.9x3.9mm, Pitch 1.27mm, IPC Medium Density)
footprint D8_L (SOIC, 8-Leads, Body 4.9x3.9mm, Pitch 1.27mm, IPC High Density)
footprint D8_M (SOIC, 8-Leads, Body 4.9x3.9mm, Pitch 1.27mm, IPC Low Density)
part A pins: 1 BOOT "Boost capacitor for the high-side FET gate driver. Connect 0.01 uF low ESR capacitor from BOOT pin to PH pin.", 4 VSENSE (in) "Feedback voltage for the regulator. Connect to output voltage divider.", 5 ENA (in) "On/off control. Below 0.5 V, the device stops switching. Float the pin to enable.", 6 GND (power) "Ground.", 7 VIN (power) "Input supply voltage. Bypass VIN pin to GND pin close to device package with a high quality, low ESR ceramic capacitor.", 8 PH (power) "Source of the high side power MOSFET. Connected to external inductor and diode."
part B pins: 2 NC "Not connected internally.", 3 NC "Not connected internally."